# Altium integrated library ON Semi Logic Gate.IntLib: 342 symbols (part 5 of 7)
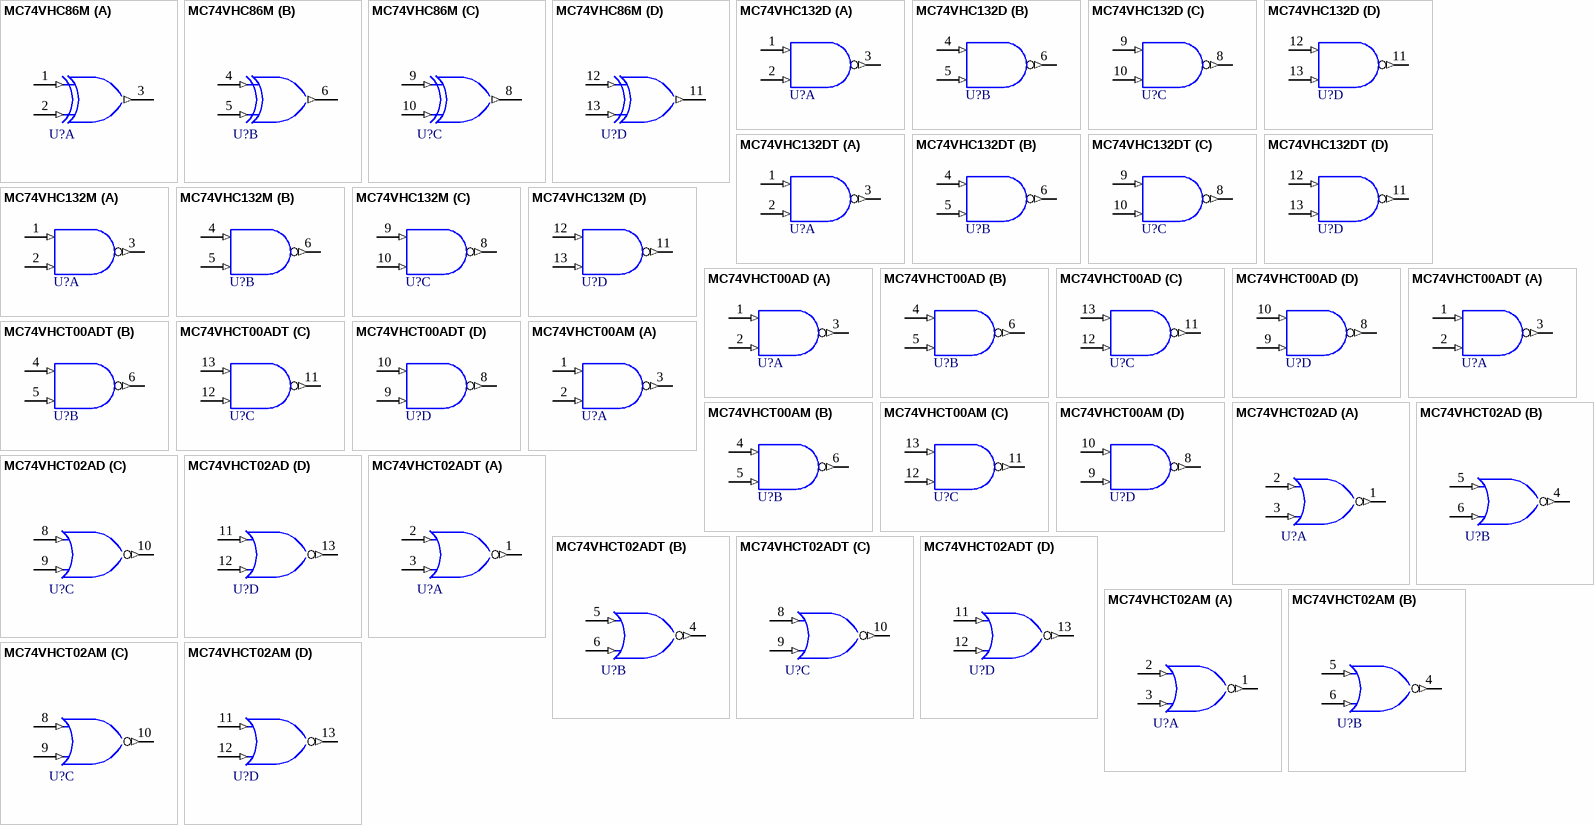
[diagram p30: symbols MC74VHC86M to MC74VHCT02AM]

## MC74VHCT00AM
designator U?
Quad 2-Input NAND Gate; Published: 15-Apr-2002; LatestRevisionDate: 13-Apr-2006; LatestRevisionNote: IPC-7351 Footprint Added.; DatasheetVersion: 1997; PackageVersion: 1996; PackageReference: 965-01; Publisher: Altium Limited; PackageDescription: 14-Pin Small Outline Package 1.27 mm Pitch; ComponentLink1Description: Manufacturer Link; ComponentLink1URL: http://www.onsemi.com/; ComponentLink2Description: Datasheet; ComponentLink2URL: http://www.onsemi.com/pub/Collateral/MC74VHCT00A-D.PDF
footprint 965-01_N (SOP, 14-Leads, Body 10.2x5.3mm, Pitch 1.27mm, IPC Medium Density)
footprint 965-01_L (SOP, 14-Leads, Body 10.2x5.3mm, Pitch 1.27mm, IPC High Density)
footprint 965-01_M (SOP, 14-Leads, Body 10.2x5.3mm, Pitch 1.27mm, IPC Low Density)
pins on every part: 7 GND (power) hidden to GND, 14 VCC (power) hidden to VCC
part A pins: 1 A (in), 2 B (in), 3 ~{O} (out)
part B pins: 4 A (in), 5 B (in), 6 ~{O} (out)
part C pins: 11 ~{O} (out), 12 B (in), 13 A (in)
part D pins: 8 ~{O} (out), 9 B (in), 10 A (in)

## MC74VHCT02AD
designator U?
Quad 2-Input NOR Gate; Published: 15-Apr-2002; LatestRevisionDate: 13-Apr-2006; LatestRevisionNote: IPC-7351 Footprint Added.; DatasheetVersion: 1999; PackageReference: 751A-03; Publisher: Altium Limited; PackageDescription: 14-Pin Small Outline Integrated Circuit 1.27 mm Pitch; Code_JEDEC: MS-012-AB; Code_IPC: SOIC127P600-14; ComponentLink1Description: Manufacturer Link; ComponentLink1URL: http://www.onsemi.com/; ComponentLink2Description: Datasheet; ComponentLink2URL: http://www.onsemi.com/pub/Collateral/MC74VHCT02A-D.PDF
footprint 751A-03_N (SOIC, 14-Leads, Body 8.7x3.9mm, Pitch 1.27mm, IPC Medium Density)
footprint 751A-03_L (SOIC, 14-Leads, Body 8.7x3.9mm, Pitch 1.27mm, IPC High Density)
footprint 751A-03_M (SOIC, 14-Leads, Body 8.7x3.9mm, Pitch 1.27mm, IPC Low Density)
pins on every part: 7 GND (power) hidden to GND, 14 VDD (power) hidden to VDD
part A pins: 1 ~{Y} (out), 2 A (in), 3 B (in)
part B pins: 4 ~{Y} (out), 5 A (in), 6 B (in)
part C pins: 8 A (in), 9 B (in), 10 ~{Y} (out)
part D pins: 11 A (in), 12 B (in), 13 ~{Y} (out)

## MC74VHCT02ADT
designator U?
Quad 2-Input NOR Gate; Published: 15-Apr-2002; LatestRevisionDate: 12-Dec-2006; LatestRevisionNote: IPC-7351 Footprint Added.; DatasheetVersion: 1999; PackageVersion: 1998; PackageReference: 948G-01; Publisher: Altium Limited; PackageDescription: 14-Pin Thin Small Outline Package 0.65 mm Pitch; ComponentLink1Description: Manufacturer Link; ComponentLink1URL: http://www.onsemi.com/; ComponentLink2Description: Datasheet; ComponentLink2URL: http://www.onsemi.com/pub/Collateral/MC74VHCT02A-D.PDF
footprint 948G-01_N (TSOP, 14-Leads, Body 5x4.4mm, Pitch 0.65mm, IPC Medium Density)
footprint 948G-01_L (TSOP, 14-Leads, Body 5x4.4mm, Pitch 0.65mm, IPC High Density)
footprint 948G-01_M (TSOP, 14-Leads, Body 5x4.4mm, Pitch 0.65mm, IPC Low Density)
pins on every part: 7 GND (power) hidden to GND, 14 VDD (power) hidden to VDD
part A pins: 1 ~{Y} (out), 2 A (in), 3 B (in)
part B pins: 4 ~{Y} (out), 5 A (in), 6 B (in)
part C pins: 8 A (in), 9 B (in), 10 ~{Y} (out)
part D pins: 11 A (in), 12 B (in), 13 ~{Y} (out)

## MC74VHCT02AM
designator U?
Quad 2-Input NOR Gate; Published: 15-Apr-2002; LatestRevisionDate: 13-Apr-2006; LatestRevisionNote: IPC-7351 Footprint Added.; DatasheetVersion: 1999; PackageVersion: 1996; PackageReference: 965-01; Publisher: Altium Limited; PackageDescription: 14-Pin Small Outline Package 1.27 mm Pitch; ComponentLink1Description: Manufacturer Link; ComponentLink1URL: http://www.onsemi.com/; ComponentLink2Description: Datasheet; ComponentLink2URL: http://www.onsemi.com/pub/Collateral/MC74VHCT02A-D.PDF
footprint 965-01_N (SOP, 14-Leads, Body 10.2x5.3mm, Pitch 1.27mm, IPC Medium Density)
footprint 965-01_L (SOP, 14-Leads, Body 10.2x5.3mm, Pitch 1.27mm, IPC High Density)
footprint 965-01_M (SOP, 14-Leads, Body 10.2x5.3mm, Pitch 1.27mm, IPC Low Density)
pins on every part: 7 GND (power) hidden to GND, 14 VDD (power) hidden to VDD
part A pins: 1 ~{Y} (out), 2 A (in), 3 B (in)
part B pins: 4 ~{Y} (out), 5 A (in), 6 B (in)
part C pins: 8 A (in), 9 B (in), 10 ~{Y} (out)
part D pins: 11 A (in), 12 B (in), 13 ~{Y} (out)

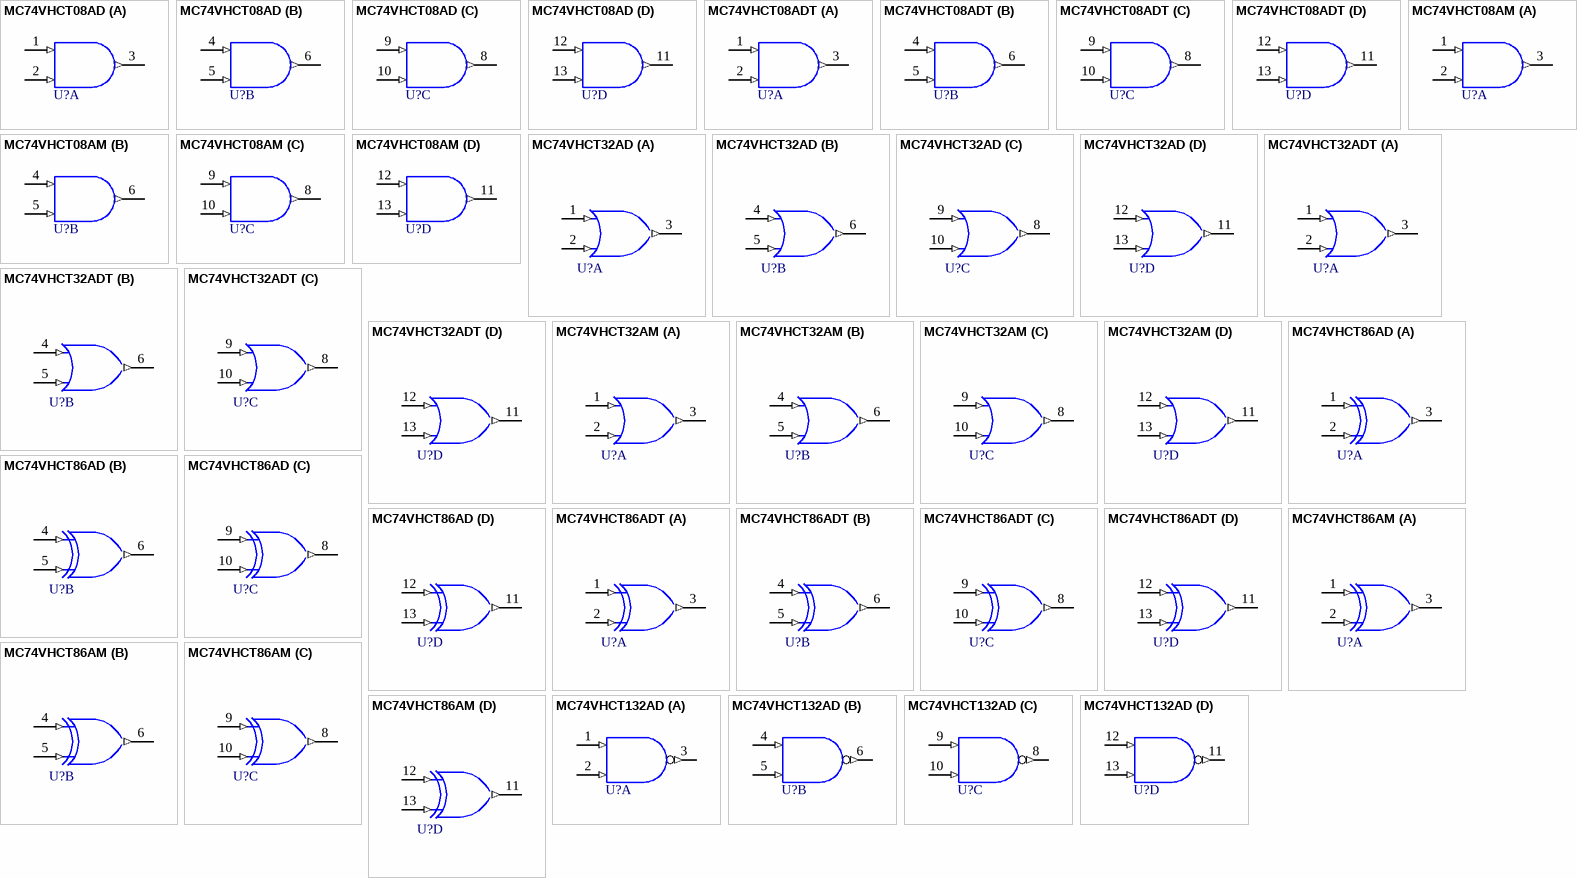
[diagram p16: symbols MC74VHCT08AD to MC74VHCT132AD]

## MC74VHCT08AD
designator U?
Quad 2-Input AND Gate; ComponentAvailability: Not for New Design; Published: 15-Apr-2002; LatestRevisionDate: 13-Apr-2006; LatestRevisionNote: IPC-7351 Footprint Added.; DatasheetVersion: 1999; PackageReference: 751A-03; Publisher: Altium Limited; PackageDescription: 14-Pin Small Outline Integrated Circuit 1.27 mm Pitch; Code_JEDEC: MS-012-AB; Code_IPC: SOIC127P600-14; ComponentLink1Description: Manufacturer Link; ComponentLink1URL: http://www.onsemi.com/; ComponentLink2Description: Datasheet; ComponentLink2URL: http://www.onsemi.com/pub/Collateral/MC74VHCT08A-D.PDF
footprint 751A-03_N (SOIC, 14-Leads, Body 8.7x3.9mm, Pitch 1.27mm, IPC Medium Density)
footprint 751A-03_L (SOIC, 14-Leads, Body 8.7x3.9mm, Pitch 1.27mm, IPC High Density)
footprint 751A-03_M (SOIC, 14-Leads, Body 8.7x3.9mm, Pitch 1.27mm, IPC Low Density)
pins on every part: 7 GND (power) hidden to GND, 14 VDD (power) hidden to VDD
part A pins: 1 A (in), 2 B (in), 3 Y (out)
part B pins: 4 A (in), 5 B (in), 6 Y (out)
part C pins: 8 Y (out), 9 A (in), 10 B (in)
part D pins: 11 Y (out), 12 A (in), 13 B (in)

## MC74VHCT08ADT
designator U?
Quad 2-Input AND Gate; ComponentAvailability: Not for New Design; Published: 15-Apr-2002; LatestRevisionDate: 12-Dec-2006; LatestRevisionNote: IPC-7351 Footprint Added.; DatasheetVersion: 1999; PackageVersion: 1998; PackageReference: 948G-01; Publisher: Altium Limited; PackageDescription: 14-Pin Thin Small Outline Package 0.65 mm Pitch; ComponentLink1Description: Manufacturer Link; ComponentLink1URL: http://www.onsemi.com/; ComponentLink2Description: Datasheet; ComponentLink2URL: http://www.onsemi.com/pub/Collateral/MC74VHCT08A-D.PDF
footprint 948G-01_N (TSOP, 14-Leads, Body 5x4.4mm, Pitch 0.65mm, IPC Medium Density)
footprint 948G-01_L (TSOP, 14-Leads, Body 5x4.4mm, Pitch 0.65mm, IPC High Density)
footprint 948G-01_M (TSOP, 14-Leads, Body 5x4.4mm, Pitch 0.65mm, IPC Low Density)
pins on every part: 7 GND (power) hidden to GND, 14 VDD (power) hidden to VDD
part A pins: 1 A (in), 2 B (in), 3 Y (out)
part B pins: 4 A (in), 5 B (in), 6 Y (out)
part C pins: 8 Y (out), 9 A (in), 10 B (in)
part D pins: 11 Y (out), 12 A (in), 13 B (in)

## MC74VHCT08AM
designator U?
Quad 2-Input AND Gate; Published: 15-Apr-2002; LatestRevisionDate: 13-Apr-2006; LatestRevisionNote: IPC-7351 Footprint Added.; DatasheetVersion: 1999; PackageVersion: 1996; PackageReference: 965-01; Publisher: Altium Limited; PackageDescription: 14-Pin Small Outline Package 1.27 mm Pitch; ComponentLink1Description: Manufacturer Link; ComponentLink1URL: http://www.onsemi.com/; ComponentLink2Description: Datasheet; ComponentLink2URL: http://www.onsemi.com/pub/Collateral/MC74VHCT08A-D.PDF
footprint 965-01_N (SOP, 14-Leads, Body 10.2x5.3mm, Pitch 1.27mm, IPC Medium Density)
footprint 965-01_L (SOP, 14-Leads, Body 10.2x5.3mm, Pitch 1.27mm, IPC High Density)
footprint 965-01_M (SOP, 14-Leads, Body 10.2x5.3mm, Pitch 1.27mm, IPC Low Density)
pins on every part: 7 GND (power) hidden to GND, 14 VDD (power) hidden to VDD
part A pins: 1 A (in), 2 B (in), 3 Y (out)
part B pins: 4 A (in), 5 B (in), 6 Y (out)
part C pins: 8 Y (out), 9 A (in), 10 B (in)
part D pins: 11 Y (out), 12 A (in), 13 B (in)

## MC74VHCT32AD
designator U?
Quad 2-Input OR Gate / CMOS Logic Level Shifter with LSTTL Compatible Inputs; ComponentAvailability: Not for New Design; Published: 15-Apr-2002; LatestRevisionDate: 13-Apr-2006; LatestRevisionNote: IPC-7351 Footprint Added.; DatasheetVersion: Oct-1999; PackageReference: 751A-03; Publisher: Altium Limited; PackageDescription: 14-Pin Small Outline Integrated Circuit 1.27 mm Pitch; Code_JEDEC: MS-012-AB; Code_IPC: SOIC127P600-14; ComponentLink1Description: Manufacturer Link; ComponentLink1URL: http://www.onsemi.com/; ComponentLink2Description: Datasheet; ComponentLink2URL: http://www.onsemi.com/pub/Collateral/MC74VHCT32A-D.PDF
footprint 751A-03_N (SOIC, 14-Leads, Body 8.7x3.9mm, Pitch 1.27mm, IPC Medium Density)
footprint 751A-03_L (SOIC, 14-Leads, Body 8.7x3.9mm, Pitch 1.27mm, IPC High Density)
footprint 751A-03_M (SOIC, 14-Leads, Body 8.7x3.9mm, Pitch 1.27mm, IPC Low Density)
pins on every part: 7 GND (power) hidden to GND, 14 VDD (power) hidden to VDD
part A pins: 1 A (in), 2 B (in), 3 Y (out)
part B pins: 4 A (in), 5 B (in), 6 Y (out)
part C pins: 8 Y (out), 9 A (in), 10 B (in)
part D pins: 11 Y (out), 12 A (in), 13 B (in)

## MC74VHCT32ADT
designator U?
Quad 2-Input OR Gate / CMOS Logic Level Shifter with LSTTL Compatible Inputs; ComponentAvailability: Not for New Design; Published: 15-Apr-2002; LatestRevisionDate: 12-Dec-2006; LatestRevisionNote: IPC-7351 Footprint Added.; DatasheetVersion: Oct-1999; PackageVersion: 1998; PackageReference: 948G-01; Publisher: Altium Limited; PackageDescription: 14-Pin Thin Small Outline Package 0.65 mm Pitch; ComponentLink1Description: Manufacturer Link; ComponentLink1URL: http://www.onsemi.com/; ComponentLink2Description: Datasheet; ComponentLink2URL: http://www.onsemi.com/pub/Collateral/MC74VHCT32A-D.PDF
footprint 948G-01_N (TSOP, 14-Leads, Body 5x4.4mm, Pitch 0.65mm, IPC Medium Density)
footprint 948G-01_L (TSOP, 14-Leads, Body 5x4.4mm, Pitch 0.65mm, IPC High Density)
footprint 948G-01_M (TSOP, 14-Leads, Body 5x4.4mm, Pitch 0.65mm, IPC Low Density)
pins on every part: 7 GND (power) hidden to GND, 14 VDD (power) hidden to VDD
part A pins: 1 A (in), 2 B (in), 3 Y (out)
part B pins: 4 A (in), 5 B (in), 6 Y (out)
part C pins: 8 Y (out), 9 A (in), 10 B (in)
part D pins: 11 Y (out), 12 A (in), 13 B (in)

## MC74VHCT32AM
designator U?
Quad 2-Input OR Gate / CMOS Logic Level Shifter with LSTTL Compatible Inputs; Published: 15-Apr-2002; LatestRevisionDate: 13-Apr-2006; LatestRevisionNote: IPC-7351 Footprint Added.; DatasheetVersion: Oct-1999; PackageVersion: 1996; PackageReference: 965-01; Publisher: Altium Limited; PackageDescription: 14-Pin Small Outline Package 1.27 mm Pitch; ComponentLink1Description: Manufacturer Link; ComponentLink1URL: http://www.onsemi.com/; ComponentLink2Description: Datasheet; ComponentLink2URL: http://www.onsemi.com/pub/Collateral/MC74VHCT32A-D.PDF
footprint 965-01_N (SOP, 14-Leads, Body 10.2x5.3mm, Pitch 1.27mm, IPC Medium Density)
footprint 965-01_L (SOP, 14-Leads, Body 10.2x5.3mm, Pitch 1.27mm, IPC High Density)
footprint 965-01_M (SOP, 14-Leads, Body 10.2x5.3mm, Pitch 1.27mm, IPC Low Density)
pins on every part: 7 GND (power) hidden to GND, 14 VDD (power) hidden to VDD
part A pins: 1 A (in), 2 B (in), 3 Y (out)
part B pins: 4 A (in), 5 B (in), 6 Y (out)
part C pins: 8 Y (out), 9 A (in), 10 B (in)
part D pins: 11 Y (out), 12 A (in), 13 B (in)

## MC74VHCT86AD
designator U?
Quad 2-Input XOR Gate / CMOS Logic Level Shifter with LSTTL-Compatible Inputs; ComponentAvailability: Not for New Design; Published: 15-Apr-2002; LatestRevisionDate: 13-Apr-2006; LatestRevisionNote: IPC-7351 Footprint Added.; DatasheetVersion: Oct-1999; PackageReference: 751A-03; Publisher: Altium Limited; PackageDescription: 14-Pin Small Outline Integrated Circuit 1.27 mm Pitch; Code_JEDEC: MS-012-AB; Code_IPC: SOIC127P600-14; ComponentLink1Description: Manufacturer Link; ComponentLink1URL: http://www.onsemi.com/; ComponentLink2Description: Datasheet; ComponentLink2URL: http://www.onsemi.com/pub/Collateral/MC74VHCT86A-D.PDF
footprint 751A-03_N (SOIC, 14-Leads, Body 8.7x3.9mm, Pitch 1.27mm, IPC Medium Density)
footprint 751A-03_L (SOIC, 14-Leads, Body 8.7x3.9mm, Pitch 1.27mm, IPC High Density)
footprint 751A-03_M (SOIC, 14-Leads, Body 8.7x3.9mm, Pitch 1.27mm, IPC Low Density)
pins on every part: 7 GND (power) hidden to GND, 14 VDD (power) hidden to VDD
part A pins: 1 A (in), 2 B (in), 3 Y (out)
part B pins: 4 A (in), 5 B (in), 6 Y (out)
part C pins: 8 Y (out), 9 A (in), 10 B (in)
part D pins: 11 Y (out), 12 A (in), 13 B (in)

## MC74VHCT86ADT
designator U?
Quad 2-Input XOR Gate / CMOS Logic Level Shifter with LSTTL-Compatible Inputs; ComponentAvailability: Not for New Design; Published: 15-Apr-2002; LatestRevisionDate: 12-Dec-2006; LatestRevisionNote: IPC-7351 Footprint Added.; DatasheetVersion: Oct-1999; PackageVersion: 1998; PackageReference: 948G-01; Publisher: Altium Limited; PackageDescription: 14-Pin Thin Small Outline Package 0.65 mm Pitch; ComponentLink1Description: Manufacturer Link; ComponentLink1URL: http://www.onsemi.com/; ComponentLink2Description: Datasheet; ComponentLink2URL: http://www.onsemi.com/pub/Collateral/MC74VHCT86A-D.PDF
footprint 948G-01_N (TSOP, 14-Leads, Body 5x4.4mm, Pitch 0.65mm, IPC Medium Density)
footprint 948G-01_L (TSOP, 14-Leads, Body 5x4.4mm, Pitch 0.65mm, IPC High Density)
footprint 948G-01_M (TSOP, 14-Leads, Body 5x4.4mm, Pitch 0.65mm, IPC Low Density)
pins on every part: 7 GND (power) hidden to GND, 14 VDD (power) hidden to VDD
part A pins: 1 A (in), 2 B (in), 3 Y (out)
part B pins: 4 A (in), 5 B (in), 6 Y (out)
part C pins: 8 Y (out), 9 A (in), 10 B (in)
part D pins: 11 Y (out), 12 A (in), 13 B (in)

## MC74VHCT86AM
designator U?
Quad 2-Input XOR Gate / CMOS Logic Level Shifter with LSTTL-Compatible Inputs; Published: 15-Apr-2002; LatestRevisionDate: 13-Apr-2006; LatestRevisionNote: IPC-7351 Footprint Added.; DatasheetVersion: Oct-1999; PackageVersion: 1996; PackageReference: 965-01; Publisher: Altium Limited; PackageDescription: 14-Pin Small Outline Package 1.27 mm Pitch; ComponentLink1Description: Manufacturer Link; ComponentLink1URL: http://www.onsemi.com/; ComponentLink2Description: Datasheet; ComponentLink2URL: http://www.onsemi.com/pub/Collateral/MC74VHCT86A-D.PDF
footprint 965-01_N (SOP, 14-Leads, Body 10.2x5.3mm, Pitch 1.27mm, IPC Medium Density)
footprint 965-01_L (SOP, 14-Leads, Body 10.2x5.3mm, Pitch 1.27mm, IPC High Density)
footprint 965-01_M (SOP, 14-Leads, Body 10.2x5.3mm, Pitch 1.27mm, IPC Low Density)
pins on every part: 7 GND (power) hidden to GND, 14 VDD (power) hidden to VDD
part A pins: 1 A (in), 2 B (in), 3 Y (out)
part B pins: 4 A (in), 5 B (in), 6 Y (out)
part C pins: 8 Y (out), 9 A (in), 10 B (in)
part D pins: 11 Y (out), 12 A (in), 13 B (in)

## MC74VHCT132AD
designator U?
Quad 2-Input NAND Schmitt Trigger; ComponentAvailability: Not for New Design; Published: 15-Apr-2002; LatestRevisionDate: 13-Apr-2006; LatestRevisionNote: IPC-7351 Footprint Added.; DatasheetVersion: 1999; PackageReference: 751A-03; Publisher: Altium Limited; PackageDescription: 14-Pin Small Outline Integrated Circuit 1.27 mm Pitch; Code_JEDEC: MS-012-AB; Code_IPC: SOIC127P600-14; ComponentLink1Description: Manufacturer Link; ComponentLink1URL: http://www.onsemi.com/; ComponentLink2Description: Datasheet; ComponentLink2URL: http://www.onsemi.com/pub/Collateral/MC74VHCT132A-D.PDF
footprint 751A-03_N (SOIC, 14-Leads, Body 8.7x3.9mm, Pitch 1.27mm, IPC Medium Density)
footprint 751A-03_L (SOIC, 14-Leads, Body 8.7x3.9mm, Pitch 1.27mm, IPC High Density)
footprint 751A-03_M (SOIC, 14-Leads, Body 8.7x3.9mm, Pitch 1.27mm, IPC Low Density)
pins on every part: 7 GND (power) hidden to GND, 14 VDD (power) hidden to VDD
part A pins: 1 A (in), 2 B (in), 3 Y (out)
part B pins: 4 A (in), 5 B (in), 6 Y (out)
part C pins: 8 Y (out), 9 A (in), 10 B (in)
part D pins: 11 Y (out), 12 A (in), 13 B (in)

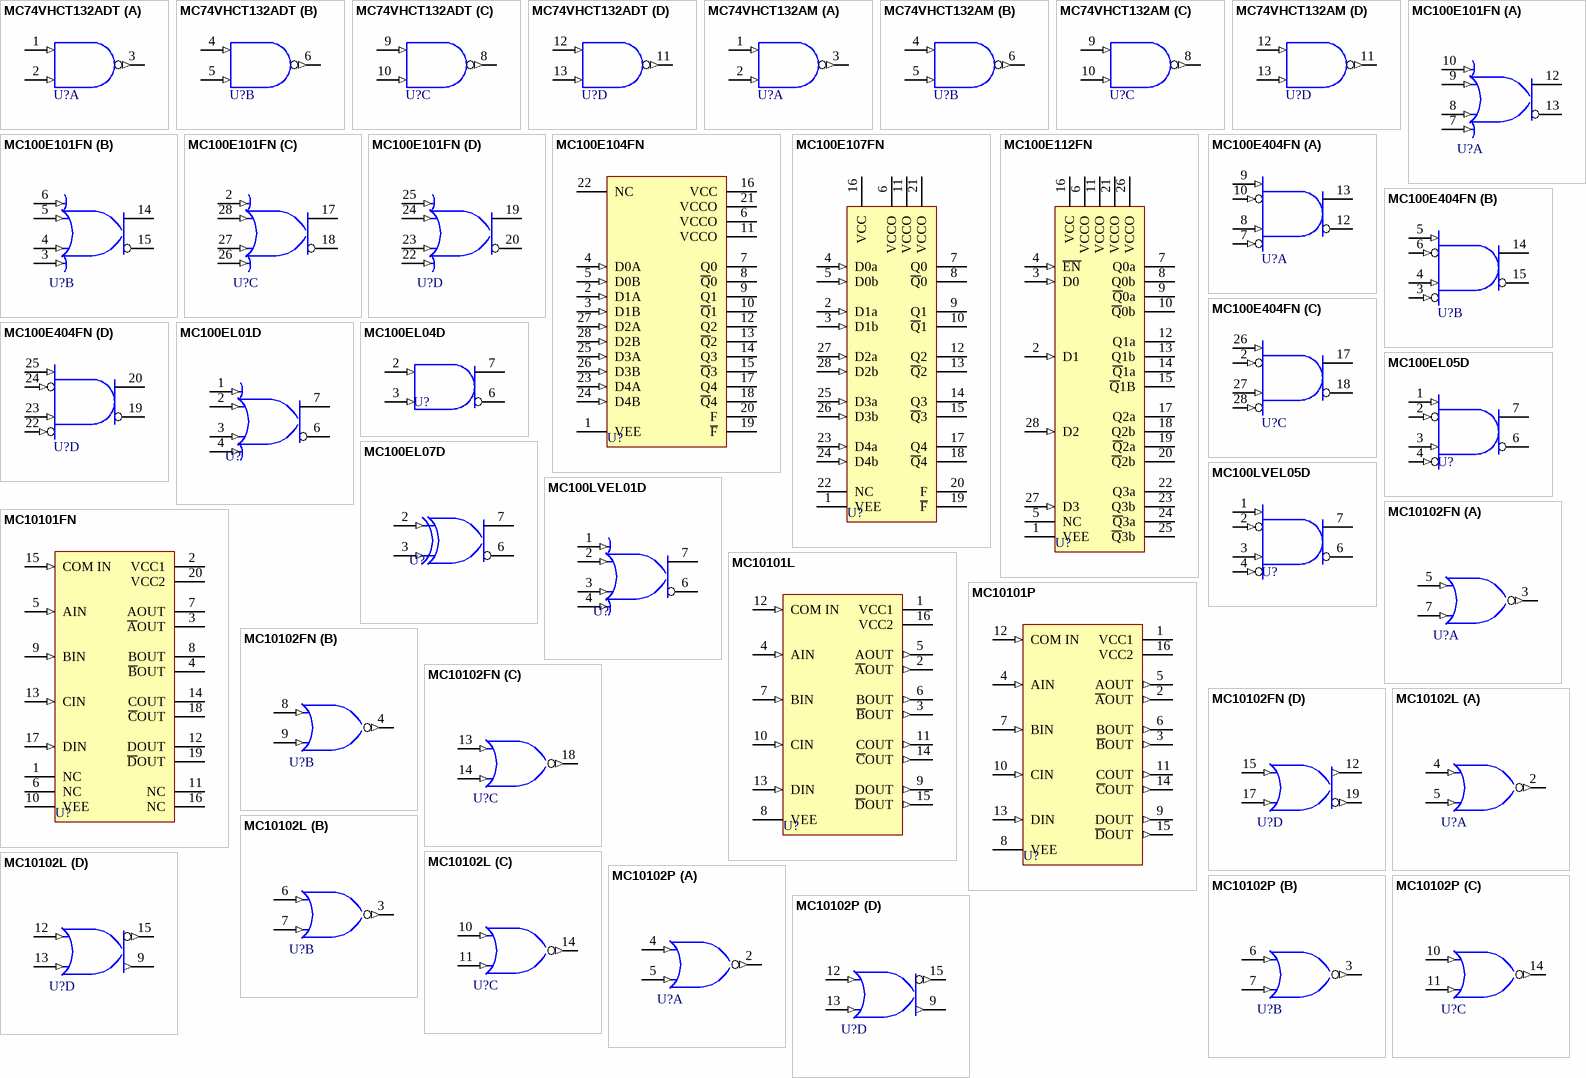
[diagram p17: symbols MC74VHCT132ADT to MC10102P]

## MC74VHCT132ADT
designator U?
Quad 2-Input NAND Schmitt Trigger; ComponentAvailability: Not for New Design; Published: 15-Apr-2002; LatestRevisionDate: 12-Dec-2006; LatestRevisionNote: IPC-7351 Footprint Added.; DatasheetVersion: 1999; PackageVersion: 1998; PackageReference: 948G-01; Publisher: Altium Limited; PackageDescription: 14-Pin Thin Small Outline Package 0.65 mm Pitch; ComponentLink1Description: Manufacturer Link; ComponentLink1URL: http://www.onsemi.com/; ComponentLink2Description: Datasheet; ComponentLink2URL: http://www.onsemi.com/pub/Collateral/MC74VHCT132A-D.PDF
footprint 948G-01_N (TSOP, 14-Leads, Body 5x4.4mm, Pitch 0.65mm, IPC Medium Density)
footprint 948G-01_L (TSOP, 14-Leads, Body 5x4.4mm, Pitch 0.65mm, IPC High Density)
footprint 948G-01_M (TSOP, 14-Leads, Body 5x4.4mm, Pitch 0.65mm, IPC Low Density)
pins on every part: 7 GND (power) hidden to GND, 14 VDD (power) hidden to VDD
part A pins: 1 A (in), 2 B (in), 3 Y (out)
part B pins: 4 A (in), 5 B (in), 6 Y (out)
part C pins: 8 Y (out), 9 A (in), 10 B (in)
part D pins: 11 Y (out), 12 A (in), 13 B (in)

## MC74VHCT132AM
designator U?
Quad 2-Input NAND Schmitt Trigger; Published: 15-Apr-2002; LatestRevisionDate: 13-Apr-2006; LatestRevisionNote: IPC-7351 Footprint Added.; DatasheetVersion: 1999; PackageVersion: 1996; PackageReference: 965-01; Publisher: Altium Limited; PackageDescription: 14-Pin Small Outline Package 1.27 mm Pitch; ComponentLink1Description: Manufacturer Link; ComponentLink1URL: http://www.onsemi.com/; ComponentLink2Description: Datasheet; ComponentLink2URL: http://www.onsemi.com/pub/Collateral/MC74VHCT132A-D.PDF
footprint 965-01_N (SOP, 14-Leads, Body 10.2x5.3mm, Pitch 1.27mm, IPC Medium Density)
footprint 965-01_L (SOP, 14-Leads, Body 10.2x5.3mm, Pitch 1.27mm, IPC High Density)
footprint 965-01_M (SOP, 14-Leads, Body 10.2x5.3mm, Pitch 1.27mm, IPC Low Density)
pins on every part: 7 GND (power) hidden to GND, 14 VDD (power) hidden to VDD
part A pins: 1 A (in), 2 B (in), 3 Y (out)
part B pins: 4 A (in), 5 B (in), 6 Y (out)
part C pins: 8 Y (out), 9 A (in), 10 B (in)
part D pins: 11 Y (out), 12 A (in), 13 B (in)

## MC100E101FN
designator U?
Quad 4-Input OR/NOR Gate; Published: 15-Apr-2002; LatestRevisionDate: 13-Apr-2006; LatestRevisionNote: IPC-7351 Footprint Added.; DatasheetVersion: 1996; PackageVersion: Feb-2000; PackageReference: 776-02; Publisher: Altium Limited; PackageDescription: 28-Pin Leaded Chip Carrier 1.27 mm Pitch; ComponentLink1Description: Manufacturer Link; ComponentLink1URL: http://www.onsemi.com/; ComponentLink2Description: Datasheet; ComponentLink2URL: http://www.onsemi.com/pub/Collateral/MC10E101-D.PDF
footprint 776-02_N (Leaded Chip Carrier, 28-Leads, Body 11.5x11.5mm, Pitch 1.27mm, IPC Medium Density)
footprint 776-02_L (Leaded Chip Carrier, 28-Leads, Body 11.5x11.5mm, Pitch 1.27mm, IPC High Density)
footprint 776-02_M (Leaded Chip Carrier, 28-Leads, Body 11.5x11.5mm, Pitch 1.27mm, IPC Low Density)
pins on every part: 1 VEE (power) hidden to VEE, 11 VCCO (power) hidden to VCCO, 16 VCC (power) hidden to VCC, 21 VCCO (power) hidden to VCCO
part A pins: 7 D0d (in), 8 D0c (in), 9 D0b (in), 10 D0a (in), 12 Q0 (oe), 13 ~{Q}0 (oe)
part B pins: 3 D1d (in), 4 D1c (in), 5 D1b (in), 6 D1a (in), 14 Q1 (oe), 15 ~{Q}1 (oe)
part C pins: 2 D2a (in), 17 Q2 (oe), 18 ~{Q}2 (oe), 26 D2d (in), 27 D2c (in), 28 D2b (in)
part D pins: 19 Q3 (oe), 20 ~{Q}3 (oe), 22 D3d (in), 23 D3c (in), 24 D3b (in), 25 D3a (in)

## MC100E104FN
designator U?
Quint 2-Input AND/NAND Gate; Published: 15-Apr-2002; LatestRevisionDate: 13-Apr-2006; LatestRevisionNote: IPC-7351 Footprint Added.; DatasheetVersion: 1996; PackageVersion: Feb-2000; PackageReference: 776-02; Publisher: Altium Limited; PackageDescription: 28-Pin Leaded Chip Carrier 1.27 mm Pitch; ComponentLink1Description: Manufacturer Link; ComponentLink1URL: http://www.onsemi.com/; ComponentLink2Description: Datasheet; ComponentLink2URL: http://www.onsemi.com/pub/Collateral/MC10E104-D.PDF
footprint 776-02_N (Leaded Chip Carrier, 28-Leads, Body 11.5x11.5mm, Pitch 1.27mm, IPC Medium Density)
footprint 776-02_L (Leaded Chip Carrier, 28-Leads, Body 11.5x11.5mm, Pitch 1.27mm, IPC High Density)
footprint 776-02_M (Leaded Chip Carrier, 28-Leads, Body 11.5x11.5mm, Pitch 1.27mm, IPC Low Density)
pins: 1 VEE (power), 2 D1A (in), 3 D1B (in), 4 D0A (in), 5 D0B (in), 6 VCCO (power), 7 Q0 (oe), 8 ~{Q}0 (oe), 9 Q1 (oe), 10 ~{Q}1 (oe), 11 VCCO (power), 12 Q2 (oe), 13 ~{Q}2 (oe), 14 Q3 (oe), 15 ~{Q}3 (oe), 16 VCC (power), 17 Q4 (oe), 18 ~{Q}4 (oe), 19 ~{F} (oe), 20 F (oe), 21 VCCO (power), 22 NC, 23 D4A (in), 24 D4B (in), 25 D3A (in), 26 D3B (in), 27 D2A (in), 28 D2B (in)

## MC100E107FN
designator U?
Quint 2-Input XOR/XNOR Gate; Published: 15-Apr-2002; LatestRevisionDate: 13-Apr-2006; LatestRevisionNote: IPC-7351 Footprint Added.; DatasheetVersion: 1996; PackageVersion: Feb-2000; PackageReference: 776-02; Publisher: Altium Limited; PackageDescription: 28-Pin Leaded Chip Carrier 1.27 mm Pitch; ComponentLink1Description: Manufacturer Link; ComponentLink1URL: http://www.onsemi.com/; ComponentLink2Description: Datasheet; ComponentLink2URL: http://www.onsemi.com/pub/Collateral/MC10E107-D.PDF
footprint 776-02_N (Leaded Chip Carrier, 28-Leads, Body 11.5x11.5mm, Pitch 1.27mm, IPC Medium Density)
footprint 776-02_L (Leaded Chip Carrier, 28-Leads, Body 11.5x11.5mm, Pitch 1.27mm, IPC High Density)
footprint 776-02_M (Leaded Chip Carrier, 28-Leads, Body 11.5x11.5mm, Pitch 1.27mm, IPC Low Density)
pins: 1 VEE (power), 2 D1a (in), 3 D1b (in), 4 D0a (in), 5 D0b (in), 6 VCCO (power), 7 Q0 (oe), 8 ~{Q}0 (oe), 9 Q1 (oe), 10 ~{Q}1 (oe), 11 VCCO (power), 12 Q2 (oe), 13 ~{Q}2 (oe), 14 Q3 (oe), 15 ~{Q}3 (oe), 16 VCC (power), 17 Q4 (oe), 18 ~{Q}4 (oe), 19 ~{F} (oe), 20 F (oe), 21 VCCO (power), 22 NC, 23 D4a (in), 24 D4b (in), 25 D3a (in), 26 D3b (in), 27 D2a (in), 28 D2b (in)

## MC100E112FN
designator U?
Quad Driver; Published: 15-Apr-2002; LatestRevisionDate: 13-Apr-2006; LatestRevisionNote: IPC-7351 Footprint Added.; DatasheetVersion: 1996; PackageVersion: Feb-2000; PackageReference: 776-02; Publisher: Altium Limited; PackageDescription: 28-Pin Leaded Chip Carrier 1.27 mm Pitch; ComponentLink1Description: Manufacturer Link; ComponentLink1URL: http://www.onsemi.com/; ComponentLink2Description: Datasheet; ComponentLink2URL: http://www.onsemi.com/pub/Collateral/MC10E112-D.PDF
footprint 776-02_N (Leaded Chip Carrier, 28-Leads, Body 11.5x11.5mm, Pitch 1.27mm, IPC Medium Density)
footprint 776-02_L (Leaded Chip Carrier, 28-Leads, Body 11.5x11.5mm, Pitch 1.27mm, IPC High Density)
footprint 776-02_M (Leaded Chip Carrier, 28-Leads, Body 11.5x11.5mm, Pitch 1.27mm, IPC Low Density)
pins: 1 VEE (power), 2 D1 (in), 3 D0 (in), 4 ~{EN} (in), 5 NC, 6 VCCO (power), 7 Q0a (oe), 8 Q0b (oe), 9 ~{Q}0a (oe), 10 ~{Q}0b (oe), 11 VCCO (power), 12 Q1a (oe), 13 Q1b (oe), 14 ~{Q}1a (oe), 15 ~{Q}1B (oe), 16 VCC (power), 17 Q2a (oe), 18 Q2b (oe), 19 ~{Q}2a (oe), 20 ~{Q}2b (oe), 21 VCCO (power), 22 Q3a (oe), 23 Q3b (oe), 24 ~{Q}3a (oe), 25 ~{Q}3b (oe), 26 VCCO (power), 27 D3 (in), 28 D2 (in)

## MC100E404FN
designator U?
Quad Differential AND/NAND Gate; Published: 15-Apr-2002; LatestRevisionDate: 13-Apr-2006; LatestRevisionNote: IPC-7351 Footprint Added.; DatasheetVersion: 1996; PackageVersion: Feb-2000; PackageReference: 776-02; Publisher: Altium Limited; PackageDescription: 28-Pin Leaded Chip Carrier 1.27 mm Pitch; ComponentLink1Description: Manufacturer Link; ComponentLink1URL: http://www.onsemi.com/; ComponentLink2Description: Datasheet; ComponentLink2URL: http://www.onsemi.com/pub/Collateral/MC10E404-D.PDF
footprint 776-02_N (Leaded Chip Carrier, 28-Leads, Body 11.5x11.5mm, Pitch 1.27mm, IPC Medium Density)
footprint 776-02_L (Leaded Chip Carrier, 28-Leads, Body 11.5x11.5mm, Pitch 1.27mm, IPC High Density)
footprint 776-02_M (Leaded Chip Carrier, 28-Leads, Body 11.5x11.5mm, Pitch 1.27mm, IPC Low Density)
pins on every part: 1 VEE (power) hidden to VEE, 11 VCCO (power) hidden to VCCO, 16 VCC (power) hidden to VCC, 21 VCCO (power) hidden to VCCO
part A pins: 7 ~{D}0b (in), 8 D0b (in), 9 D0a (in), 10 ~{D}0a (in), 12 ~{Q}0 (oe), 13 Q0 (oe)
part B pins: 3 ~{D}1b (in), 4 D1b (in), 5 ~{D}1a (in), 6 D1a (in), 14 Q1 (oe), 15 ~{Q}1 (oe)
part C pins: 2 D2a (in), 17 Q2 (oe), 18 ~{Q}2 (oe), 26 ~{D}2b (in), 27 D2b (in), 28 ~{D}2a (in)
part D pins: 19 ~{Q}3 (oe), 20 Q3 (oe), 22 ~{D}3b (in), 23 D3b (in), 24 ~{D}3a (in), 25 D3a (in)

## MC100EL01D
designator U?
4-Input OR/NOR Gate; Published: 15-Apr-2002; LatestRevisionDate: 13-Apr-2006; LatestRevisionNote: IPC-7351 Footprint Added.; DatasheetVersion: 1996; PackageVersion: 1998; PackageReference: 751-05; Publisher: Altium Limited; PackageDescription: 8-Pin Small Outline Integrated Circuit 1.27 mm Pitch; Code_JEDEC: MS-012-AA; Code_IPC: SOIC127P600-8; ComponentLink1Description: Manufacturer Link; ComponentLink1URL: http://www.onsemi.com/; ComponentLink2Description: Datasheet; ComponentLink2URL: http://www.onsemi.com/pub/Collateral/MC10EL01-D.PDF
footprint 751-05_N (SOIC, 8-Leads, Body 4.9x3.9mm, Pitch 1.27mm, IPC Medium Density)
footprint 751-05_L (SOIC, 8-Leads, Body 4.9x3.9mm, Pitch 1.27mm, IPC High Density)
footprint 751-05_M (SOIC, 8-Leads, Body 4.9x3.9mm, Pitch 1.27mm, IPC Low Density)
pins: 1 D0 (in), 2 D1 (in), 3 D2 (in), 4 D3 (in), 5 VEE (power) hidden to VEE, 6 ~{Q} (oe), 7 Q (oe), 8 VCC (power) hidden to VCC

## MC100EL04D
designator U?
2-Input AND/NAND Gate; Note: NC Pins are pins 1, 4; Published: 15-Apr-2002; LatestRevisionDate: 13-Apr-2006; LatestRevisionNote: IPC-7351 Footprint Added.; DatasheetVersion: 1996; PackageVersion: 1998; PackageReference: 751-05; Publisher: Altium Limited; PackageDescription: 8-Pin Small Outline Integrated Circuit 1.27 mm Pitch; Code_JEDEC: MS-012-AA; Code_IPC: SOIC127P600-8; ComponentLink1Description: Manufacturer Link; ComponentLink1URL: http://www.onsemi.com/; ComponentLink2Description: Datasheet; ComponentLink2URL: http://www.onsemi.com/pub/Collateral/MC10EL04-D.PDF
footprint 751-05_N (SOIC, 8-Leads, Body 4.9x3.9mm, Pitch 1.27mm, IPC Medium Density)
footprint 751-05_L (SOIC, 8-Leads, Body 4.9x3.9mm, Pitch 1.27mm, IPC High Density)
footprint 751-05_M (SOIC, 8-Leads, Body 4.9x3.9mm, Pitch 1.27mm, IPC Low Density)
pins: 2 D0 (in), 3 D1 (in), 5 VEE (power) hidden to VEE, 6 ~{Q} (oe), 7 Q (oe), 8 VCC (power) hidden to VCC

## MC100EL05D
designator U?
2-Input Differential AND/NAND Gate; Published: 15-Apr-2002; LatestRevisionDate: 13-Apr-2006; LatestRevisionNote: IPC-7351 Footprint Added.; DatasheetVersion: 1996; PackageVersion: 1998; PackageReference: 751-05; Publisher: Altium Limited; PackageDescription: 8-Pin Small Outline Integrated Circuit 1.27 mm Pitch; Code_JEDEC: MS-012-AA; Code_IPC: SOIC127P600-8; ComponentLink1Description: Manufacturer Link; ComponentLink1URL: http://www.onsemi.com/; ComponentLink2Description: Datasheet; ComponentLink2URL: http://www.onsemi.com/pub/Collateral/MC10EL05-D.PDF
footprint 751-05_N (SOIC, 8-Leads, Body 4.9x3.9mm, Pitch 1.27mm, IPC Medium Density)
footprint 751-05_L (SOIC, 8-Leads, Body 4.9x3.9mm, Pitch 1.27mm, IPC High Density)
footprint 751-05_M (SOIC, 8-Leads, Body 4.9x3.9mm, Pitch 1.27mm, IPC Low Density)
pins: 1 D0 (in), 2 ~{D}0 (in), 3 D1 (in), 4 ~{D}1 (in), 5 VEE (power) hidden to VEE, 6 ~{Q} (oe), 7 Q (oe), 8 VCC (power) hidden to VCC

## MC100EL07D
designator U?
2-Input XOR/XNOR Gate; Note: NC Pins are pins 1, 4 and not drawn.; Published: 15-Apr-2002; LatestRevisionDate: 13-Apr-2006; LatestRevisionNote: IPC-7351 Footprint Added.; DatasheetVersion: 1996; PackageVersion: 1998; PackageReference: 751-05; Publisher: Altium Limited; PackageDescription: 8-Pin Small Outline Integrated Circuit 1.27 mm Pitch; Code_JEDEC: MS-012-AA; Code_IPC: SOIC127P600-8; ComponentLink1Description: Manufacturer Link; ComponentLink1URL: http://www.onsemi.com/; ComponentLink2Description: Datasheet; ComponentLink2URL: http://www.onsemi.com/pub/Collateral/MC10EL07-D.PDF
footprint 751-05_N (SOIC, 8-Leads, Body 4.9x3.9mm, Pitch 1.27mm, IPC Medium Density)
footprint 751-05_L (SOIC, 8-Leads, Body 4.9x3.9mm, Pitch 1.27mm, IPC High Density)
footprint 751-05_M (SOIC, 8-Leads, Body 4.9x3.9mm, Pitch 1.27mm, IPC Low Density)
pins: 2 D0 (in), 3 D1 (in), 5 VEE (power) hidden to VEE, 6 ~{Q} (oe), 7 Q (oe), 8 VCC (power) hidden to VCC

## MC100LVEL01D
designator U?
4-Input OR/NOR Gate; Published: 15-Apr-2002; LatestRevisionDate: 13-Apr-2006; LatestRevisionNote: IPC-7351 Footprint Added.; DatasheetVersion: 1996; PackageVersion: 1998; PackageReference: 751-05; Publisher: Altium Limited; PackageDescription: 8-Pin Small Outline Integrated Circuit 1.27 mm Pitch; Code_JEDEC: MS-012-AA; Code_IPC: SOIC127P600-8; ComponentLink1Description: Manufacturer Link; ComponentLink1URL: http://www.onsemi.com/; ComponentLink2Description: Datasheet; ComponentLink2URL: http://www.onsemi.com/pub/Collateral/MC100LVEL01-D.PDF
footprint 751-05_N (SOIC, 8-Leads, Body 4.9x3.9mm, Pitch 1.27mm, IPC Medium Density)
footprint 751-05_L (SOIC, 8-Leads, Body 4.9x3.9mm, Pitch 1.27mm, IPC High Density)
footprint 751-05_M (SOIC, 8-Leads, Body 4.9x3.9mm, Pitch 1.27mm, IPC Low Density)
pins: 1 D0 (in), 2 D1 (in), 3 D2 (in), 4 D3 (in), 5 VEE (power) hidden to VEE, 6 ~{Q} (oe), 7 Q (oe), 8 VCC (power) hidden to VCC

## MC100LVEL05D
designator U?
2-Input Differential AND/NAND Gate; Published: 15-Apr-2002; LatestRevisionDate: 13-Apr-2006; LatestRevisionNote: IPC-7351 Footprint Added.; DatasheetVersion: 1997; PackageVersion: 1998; PackageReference: 751-05; Publisher: Altium Limited; PackageDescription: 8-Pin Small Outline Integrated Circuit 1.27 mm Pitch; Code_JEDEC: MS-012-AA; Code_IPC: SOIC127P600-8; ComponentLink1Description: Manufacturer Link; ComponentLink1URL: http://www.onsemi.com/; ComponentLink2Description: Datasheet; ComponentLink2URL: http://www.onsemi.com/pub/Collateral/MC100LVEL05-D.PDF
footprint 751-05_N (SOIC, 8-Leads, Body 4.9x3.9mm, Pitch 1.27mm, IPC Medium Density)
footprint 751-05_L (SOIC, 8-Leads, Body 4.9x3.9mm, Pitch 1.27mm, IPC High Density)
footprint 751-05_M (SOIC, 8-Leads, Body 4.9x3.9mm, Pitch 1.27mm, IPC Low Density)
pins: 1 D0 (in), 2 ~{D}0 (in), 3 D1 (in), 4 ~{D}1 (in), 5 VEE (power) hidden to VEE, 6 ~{Q} (oe), 7 Q (oe), 8 VCC (power) hidden to VCC

## MC10101FN
designator U?
Quad OR/NOR Gate; Note: NC pins are pins 1, 6, 11, 16; ComponentAvailability: Not for New Design; Published: 15-Apr-2002; LatestRevisionDate: 13-Apr-2006; LatestRevisionNote: IPC-7351 Footprint Added.; DatasheetVersion: 1996; PackageVersion: 1996; PackageReference: 775-02; Publisher: Altium Limited; PackageDescription: 20-Pin Leaded Chip Carrier 1.27 mm Pitch; ComponentLink1Description: Manufacturer Link; ComponentLink1URL: http://www.onsemi.com/; ComponentLink2Description: Datasheet; ComponentLink2URL: http://www.onsemi.com/pub/Collateral/MC10101-D.PDF
footprint 775-02_N (Leaded Chip Carrier, 20-Leads, Body 9x9mm, Pitch 1.27mm, IPC Medium Density)
footprint 775-02_L (Leaded Chip Carrier, 20-Leads, Body 9x9mm, Pitch 1.27mm, IPC High Density)
footprint 775-02_M (Leaded Chip Carrier, 20-Leads, Body 9x9mm, Pitch 1.27mm, IPC Low Density)
pins: 1 NC, 2 VCC1 (power), 3 ~{A}OUT (oe), 4 ~{B}OUT (oe), 5 AIN (in), 6 NC, 7 AOUT (oe), 8 BOUT (oe), 9 BIN (in), 10 VEE (power), 11 NC, 12 DOUT (oe), 13 CIN (in), 14 COUT (oe), 15 COM IN (in), 16 NC, 17 DIN (in), 18 ~{C}OUT (oe), 19 ~{D}OUT (oe), 20 VCC2 (power)

## MC10101L
designator U?
Quad OR/NOR Gate; ComponentAvailability: Not for New Design; Published: 15-Apr-2002; DatasheetVersion: 1996; PackageVersion: 1996; PackageReference: 620-10; Publisher: Altium Limited; PackageDescription: DIP; 16 Leads; Row Spacing 7.62 mm; Pitch 2.54 mm; ComponentLink1Description: Manufacturer Link; ComponentLink1URL: http://www.onsemi.com/; ComponentLink2Description: Datasheet; ComponentLink2URL: http://www.onsemi.com/pub/Collateral/MC10101-D.PDF
footprint 620-10 (DIP; 16 Leads; Row Spacing 7.62 mm; Pitch 2.54 mm)
pins: 1 VCC1 (power), 2 ~{A}OUT (out), 3 ~{B}OUT (out), 4 AIN (in), 5 AOUT (out), 6 BOUT (out), 7 BIN (in), 8 VEE (power), 9 DOUT (out), 10 CIN (in), 11 COUT (out), 12 COM IN (in), 13 DIN (in), 14 ~{C}OUT (out), 15 ~{D}OUT (out), 16 VCC2 (power)

## MC10101P
designator U?
Quad OR/NOR Gate; ComponentAvailability: Not for New Design; Published: 15-Apr-2002; DatasheetVersion: 1996; PackageVersion: Apr-2000; PackageReference: 648-08; Publisher: Altium Limited; PackageDescription: DIP; 16 Leads; Row Spacing 7.62 mm; Pitch 2.54 mm; Code_JEDEC: MS-001-BB; ComponentLink1Description: Manufacturer Link; ComponentLink1URL: http://www.onsemi.com/; ComponentLink2Description: Datasheet; ComponentLink2URL: http://www.onsemi.com/pub/Collateral/MC10101-D.PDF
footprint 648-08 (DIP; 16 Leads; Row Spacing 7.62 mm; Pitch 2.54 mm)
pins: 1 VCC1 (power), 2 ~{A}OUT (out), 3 ~{B}OUT (out), 4 AIN (in), 5 AOUT (out), 6 BOUT (out), 7 BIN (in), 8 VEE (power), 9 DOUT (out), 10 CIN (in), 11 COUT (out), 12 COM IN (in), 13 DIN (in), 14 ~{C}OUT (out), 15 ~{D}OUT (out), 16 VCC2 (power)

## MC10102FN
designator U?
Quad 2-Input NOR Gate; Note: NC Pins are pins 1, 6, 11, 16.; ComponentAvailability: Not for New Design; Published: 15-Apr-2002; LatestRevisionDate: 13-Apr-2006; LatestRevisionNote: IPC-7351 Footprint Added.; DatasheetVersion: 1996; PackageVersion: 1996; PackageReference: 775-02; Publisher: Altium Limited; PackageDescription: 20-Pin Leaded Chip Carrier 1.27 mm Pitch; ComponentLink1Description: Manufacturer Link; ComponentLink1URL: http://www.onsemi.com/; ComponentLink2Description: Datasheet; ComponentLink2URL: http://www.onsemi.com/pub/Collateral/MC10102-D.PDF
footprint 775-02_N (Leaded Chip Carrier, 20-Leads, Body 9x9mm, Pitch 1.27mm, IPC Medium Density)
footprint 775-02_L (Leaded Chip Carrier, 20-Leads, Body 9x9mm, Pitch 1.27mm, IPC High Density)
footprint 775-02_M (Leaded Chip Carrier, 20-Leads, Body 9x9mm, Pitch 1.27mm, IPC Low Density)
pins on every part: 2 VCC1 (power) hidden to VCC1, 10 VEE (power) hidden to VEE, 20 VCC2 (power) hidden to VCC2
part A pins: 3 ~{Y} (out), 5 A (in), 7 B (in)
part B pins: 4 ~{Y} (out), 8 A (in), 9 B (in)
part C pins: 13 A (in), 14 B (in), 18 ~{Y} (out)
part D pins: 12 Y (out), 15 A (in), 17 B (in), 19 ~{Y} (out)

## MC10102L
designator U?
Quad 2-Input NOR Gate; ComponentAvailability: Not for New Design; Published: 15-Apr-2002; LatestRevisionDate: 28-Feb-2003; LatestRevisionNote: Duplicate Pins Removed; DatasheetVersion: 1996; PackageVersion: 1996; PackageReference: 620-10; Publisher: Altium Limited; PackageDescription: DIP; 16 Leads; Row Spacing 7.62 mm; Pitch 2.54 mm; ComponentLink1Description: Manufacturer Link; ComponentLink1URL: http://www.onsemi.com/; ComponentLink2Description: Datasheet; ComponentLink2URL: http://www.onsemi.com/pub/Collateral/MC10102-D.PDF
footprint 620-10 (DIP; 16 Leads; Row Spacing 7.62 mm; Pitch 2.54 mm)
pins on every part: 1 VCC1 (power) hidden to VCC1, 8 VEE (power) hidden to VEE, 16 VCC2 (power) hidden to VCC2
part A pins: 2 ~{AOUT} (out), 4 AIN (in), 5 AIN (in)
part B pins: 3 ~{BOUT} (out), 6 BIN (in), 7 BIN (in)
part C pins: 10 CIN (in), 11 CIN (in), 14 ~{COUT} (out)
part D pins: 9 DOUT (out), 12 DIN (in), 13 DIN (in), 15 ~{DOUT} (out)

## MC10102P
designator U?
Quad 2-Input NOR Gate; ComponentAvailability: Not for New Design; Published: 15-Apr-2002; LatestRevisionDate: 28-Feb-2003; LatestRevisionNote: Duplicate Pins Removed; DatasheetVersion: 1996; PackageVersion: Apr-2000; PackageReference: 648-08; Publisher: Altium Limited; PackageDescription: DIP; 16 Leads; Row Spacing 7.62 mm; Pitch 2.54 mm; Code_JEDEC: MS-001-BB; ComponentLink1Description: Manufacturer Link; ComponentLink1URL: http://www.onsemi.com/; ComponentLink2Description: Datasheet; ComponentLink2URL: http://www.onsemi.com/pub/Collateral/MC10102-D.PDF
footprint 648-08 (DIP; 16 Leads; Row Spacing 7.62 mm; Pitch 2.54 mm)
pins on every part: 1 VCC1 (power) hidden to VCC1, 8 VEE (power) hidden to VEE, 16 VCC2 (power) hidden to VCC2
part A pins: 2 ~{AOUT} (out), 4 AIN (in), 5 AIN (in)
part B pins: 3 ~{BOUT} (out), 6 BIN (in), 7 BIN (in)
part C pins: 10 CIN (in), 11 CIN (in), 14 ~{COUT} (out)
part D pins: 9 DOUT (out), 12 DIN (in), 13 DIN (in), 15 ~{DOUT} (out)

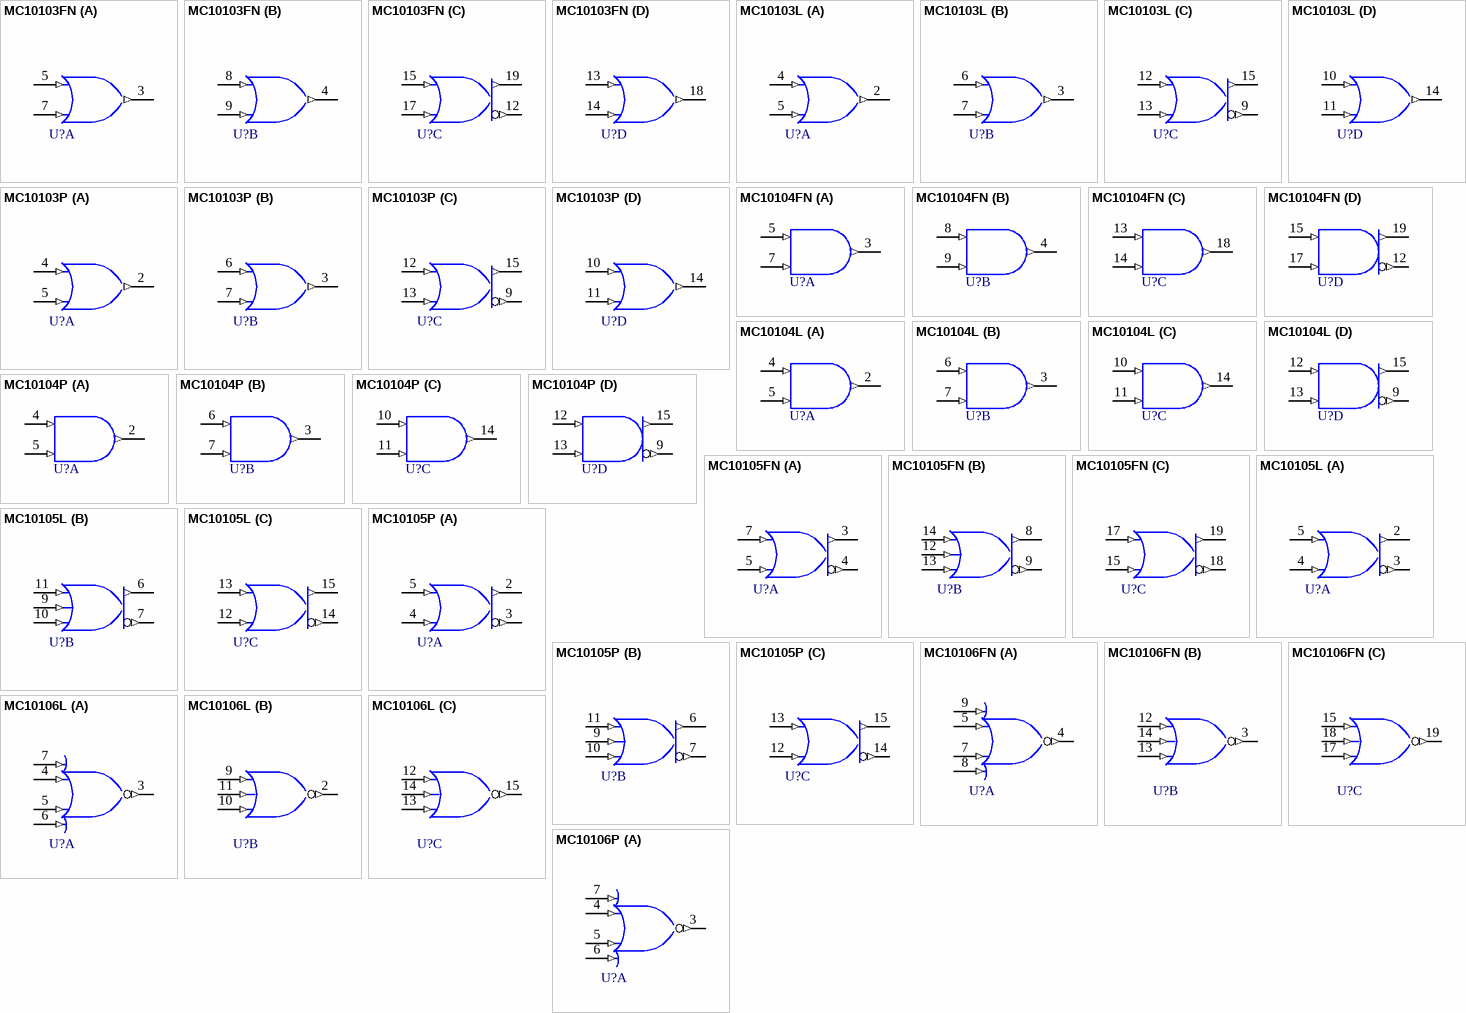
[diagram p18: symbols MC10103FN to MC10106P]

## MC10103FN
designator U?
Quad 2-Input OR Gate; Note: NC Pins are pins 1, 6, 11, 16.; ComponentAvailability: Not for New Design; Published: 15-Apr-2002; LatestRevisionDate: 13-Apr-2006; LatestRevisionNote: IPC-7351 Footprint Added.; DatasheetVersion: 1996; PackageVersion: 1996; PackageReference: 775-02; Publisher: Altium Limited; PackageDescription: 20-Pin Leaded Chip Carrier 1.27 mm Pitch; ComponentLink1Description: Manufacturer Link; ComponentLink1URL: http://www.onsemi.com/; ComponentLink2Description: Datasheet; ComponentLink2URL: http://www.onsemi.com/pub/Collateral/MC10103-D.PDF
footprint 775-02_N (Leaded Chip Carrier, 20-Leads, Body 9x9mm, Pitch 1.27mm, IPC Medium Density)
footprint 775-02_L (Leaded Chip Carrier, 20-Leads, Body 9x9mm, Pitch 1.27mm, IPC High Density)
footprint 775-02_M (Leaded Chip Carrier, 20-Leads, Body 9x9mm, Pitch 1.27mm, IPC Low Density)
pins on every part: 2 VCC1 (power) hidden to VCC1, 10 VEE (power) hidden to VEE, 20 VCC2 (power) hidden to VCC2
part A pins: 3 Y (out), 5 A (in), 7 B (in)
part B pins: 4 Y (out), 8 A (in), 9 B (in)
part C pins: 12 ~{Y} (out), 15 A (in), 17 B (in), 19 Y (out)
part D pins: 13 A (in), 14 B (in), 18 Y (out)

## MC10103L
designator U?
Quad 2-Input OR Gate; ComponentAvailability: Not for New Design; Published: 15-Apr-2002; DatasheetVersion: 1996; PackageVersion: 1996; PackageReference: 620-10; Publisher: Altium Limited; PackageDescription: DIP; 16 Leads; Row Spacing 7.62 mm; Pitch 2.54 mm; ComponentLink1Description: Manufacturer Link; ComponentLink1URL: http://www.onsemi.com/; ComponentLink2Description: Datasheet; ComponentLink2URL: http://www.onsemi.com/pub/Collateral/MC10103-D.PDF
footprint 620-10 (DIP; 16 Leads; Row Spacing 7.62 mm; Pitch 2.54 mm)
pins on every part: 1 VCC1 (power) hidden to VCC1, 8 VEE (power) hidden to VEE, 16 VCC2 (power) hidden to VCC2
part A pins: 2 Y (out), 4 A (in), 5 B (in)
part B pins: 3 Y (out), 6 A (in), 7 B (in)
part C pins: 9 ~{Y} (out), 12 A (in), 13 B (in), 15 Y (out)
part D pins: 10 A (in), 11 B (in), 14 Y (out)

## MC10103P
designator U?
Quad 2-Input OR Gate; ComponentAvailability: Not for New Design; Published: 15-Apr-2002; DatasheetVersion: 1996; PackageVersion: Apr-2000; PackageReference: 648-08; Publisher: Altium Limited; PackageDescription: DIP; 16 Leads; Row Spacing 7.62 mm; Pitch 2.54 mm; Code_JEDEC: MS-001-BB; ComponentLink1Description: Manufacturer Link; ComponentLink1URL: http://www.onsemi.com/; ComponentLink2Description: Datasheet; ComponentLink2URL: http://www.onsemi.com/pub/Collateral/MC10103-D.PDF
footprint 648-08 (DIP; 16 Leads; Row Spacing 7.62 mm; Pitch 2.54 mm)
pins on every part: 1 VCC1 (power) hidden to VCC1, 8 VEE (power) hidden to VEE, 16 VCC2 (power) hidden to VCC2
part A pins: 2 Y (out), 4 A (in), 5 B (in)
part B pins: 3 Y (out), 6 A (in), 7 B (in)
part C pins: 9 ~{Y} (out), 12 A (in), 13 B (in), 15 Y (out)
part D pins: 10 A (in), 11 B (in), 14 Y (out)

## MC10104FN
designator U?
Quad 2-Input AND Gate; Note: NC Pins are pins 1, 6, 11, 16.; ComponentAvailability: Not for New Design; Published: 15-Apr-2002; LatestRevisionDate: 13-Apr-2006; LatestRevisionNote: IPC-7351 Footprint Added.; DatasheetVersion: 1996; PackageVersion: 1996; PackageReference: 775-02; Publisher: Altium Limited; PackageDescription: 20-Pin Leaded Chip Carrier 1.27 mm Pitch; ComponentLink1Description: Manufacturer Link; ComponentLink1URL: http://www.onsemi.com/; ComponentLink2Description: Datasheet; ComponentLink2URL: http://www.onsemi.com/pub/Collateral/MC10104-D.PDF
footprint 775-02_N (Leaded Chip Carrier, 20-Leads, Body 9x9mm, Pitch 1.27mm, IPC Medium Density)
footprint 775-02_L (Leaded Chip Carrier, 20-Leads, Body 9x9mm, Pitch 1.27mm, IPC High Density)
footprint 775-02_M (Leaded Chip Carrier, 20-Leads, Body 9x9mm, Pitch 1.27mm, IPC Low Density)
pins on every part: 2 VCC1 (power) hidden to VCC1, 10 VEE (power) hidden to VEE, 20 VCC2 (power) hidden to VCC2
part A pins: 3 Y (out), 5 A (in), 7 B (in)
part B pins: 4 Y (out), 8 A (in), 9 B (in)
part C pins: 13 A (in), 14 B (in), 18 Y (out)
part D pins: 12 ~{Y} (out), 15 A (in), 17 B (in), 19 Y (out)

## MC10104L
designator U?
Quad 2-Input AND Gate; ComponentAvailability: Not for New Design; Published: 15-Apr-2002; DatasheetVersion: 1996; PackageVersion: 1996; PackageReference: 620-10; Publisher: Altium Limited; PackageDescription: DIP; 16 Leads; Row Spacing 7.62 mm; Pitch 2.54 mm; ComponentLink1Description: Manufacturer Link; ComponentLink1URL: http://www.onsemi.com/; ComponentLink2Description: Datasheet; ComponentLink2URL: http://www.onsemi.com/pub/Collateral/MC10104-D.PDF
footprint 620-10 (DIP; 16 Leads; Row Spacing 7.62 mm; Pitch 2.54 mm)
pins on every part: 1 VCC1 (power) hidden to VCC1, 8 VEE (power) hidden to VEE, 16 VCC2 (power) hidden to VCC2
part A pins: 2 Y (out), 4 A (in), 5 B (in)
part B pins: 3 Y (out), 6 A (in), 7 B (in)
part C pins: 10 A (in), 11 B (in), 14 Y (out)
part D pins: 9 ~{Y} (out), 12 A (in), 13 B (in), 15 Y (out)

## MC10104P
designator U?
Quad 2-Input AND Gate; ComponentAvailability: Not for New Design; Published: 15-Apr-2002; DatasheetVersion: 1996; PackageVersion: Apr-2000; PackageReference: 648-08; Publisher: Altium Limited; PackageDescription: DIP; 16 Leads; Row Spacing 7.62 mm; Pitch 2.54 mm; Code_JEDEC: MS-001-BB; ComponentLink1Description: Manufacturer Link; ComponentLink1URL: http://www.onsemi.com/; ComponentLink2Description: Datasheet; ComponentLink2URL: http://www.onsemi.com/pub/Collateral/MC10104-D.PDF
footprint 648-08 (DIP; 16 Leads; Row Spacing 7.62 mm; Pitch 2.54 mm)
pins on every part: 1 VCC1 (power) hidden to VCC1, 8 VEE (power) hidden to VEE, 16 VCC2 (power) hidden to VCC2
part A pins: 2 Y (out), 4 A (in), 5 B (in)
part B pins: 3 Y (out), 6 A (in), 7 B (in)
part C pins: 10 A (in), 11 B (in), 14 Y (out)
part D pins: 9 ~{Y} (out), 12 A (in), 13 B (in), 15 Y (out)

## MC10105FN
designator U?
Triple 2-3-2-Input OR/NOR Gate; Note: NC Pins are pins 1, 6, 11, 16.; ComponentAvailability: Not for New Design; Published: 15-Apr-2002; LatestRevisionDate: 13-Apr-2006; LatestRevisionNote: IPC-7351 Footprint Added.; DatasheetVersion: 1996; PackageVersion: 1996; PackageReference: 775-02; Publisher: Altium Limited; PackageDescription: 20-Pin Leaded Chip Carrier 1.27 mm Pitch; ComponentLink1Description: Manufacturer Link; ComponentLink1URL: http://www.onsemi.com/; ComponentLink2Description: Datasheet; ComponentLink2URL: http://www.onsemi.com/pub/Collateral/MC10105-D.PDF
footprint 775-02_N (Leaded Chip Carrier, 20-Leads, Body 9x9mm, Pitch 1.27mm, IPC Medium Density)
footprint 775-02_L (Leaded Chip Carrier, 20-Leads, Body 9x9mm, Pitch 1.27mm, IPC High Density)
footprint 775-02_M (Leaded Chip Carrier, 20-Leads, Body 9x9mm, Pitch 1.27mm, IPC Low Density)
pins on every part: 2 VCC1 (power) hidden to VCC1, 10 VEE (power) hidden to VEE, 20 VCC2 (power) hidden to VCC2
part A pins: 3 Y (out), 4 ~{Y} (out), 5 B (in), 7 A (in)
part B pins: 8 Y (out), 9 ~{Y} (out), 12 B (in), 13 C (in), 14 A (in)
part C pins: 15 B (in), 17 A (in), 18 ~{Y} (out), 19 Y (out)

## MC10105L
designator U?
Triple 2-3-2-Input OR/NOR Gate; ComponentAvailability: Not for New Design; Published: 15-Apr-2002; DatasheetVersion: 1996; PackageVersion: 1996; PackageReference: 620-10; Publisher: Altium Limited; PackageDescription: DIP; 16 Leads; Row Spacing 7.62 mm; Pitch 2.54 mm; ComponentLink1Description: Manufacturer Link; ComponentLink1URL: http://www.onsemi.com/; ComponentLink2Description: Datasheet; ComponentLink2URL: http://www.onsemi.com/pub/Collateral/MC10105-D.PDF
footprint 620-10 (DIP; 16 Leads; Row Spacing 7.62 mm; Pitch 2.54 mm)
pins on every part: 1 VCC1 (power) hidden to VCC1, 8 VEE (power) hidden to VEE, 16 VCC2 (power) hidden to VCC2
part A pins: 2 Y (out), 3 ~{Y} (out), 4 B (in), 5 A (in)
part B pins: 6 Y (out), 7 ~{Y} (out), 9 B (in), 10 C (in), 11 A (in)
part C pins: 12 B (in), 13 A (in), 14 ~{Y} (out), 15 Y (out)

## MC10105P
designator U?
Triple 2-3-2-Input OR/NOR Gate; ComponentAvailability: Not for New Design; Published: 15-Apr-2002; DatasheetVersion: 1996; PackageVersion: Apr-2000; PackageReference: 648-08; Publisher: Altium Limited; PackageDescription: DIP; 16 Leads; Row Spacing 7.62 mm; Pitch 2.54 mm; Code_JEDEC: MS-001-BB; ComponentLink1Description: Manufacturer Link; ComponentLink1URL: http://www.onsemi.com/; ComponentLink2Description: Datasheet; ComponentLink2URL: http://www.onsemi.com/pub/Collateral/MC10105-D.PDF
footprint 648-08 (DIP; 16 Leads; Row Spacing 7.62 mm; Pitch 2.54 mm)
pins on every part: 1 VCC1 (power) hidden to VCC1, 8 VEE (power) hidden to VEE, 16 VCC2 (power) hidden to VCC2
part A pins: 2 Y (out), 3 ~{Y} (out), 4 B (in), 5 A (in)
part B pins: 6 Y (out), 7 ~{Y} (out), 9 B (in), 10 C (in), 11 A (in)
part C pins: 12 B (in), 13 A (in), 14 ~{Y} (out), 15 Y (out)

## MC10106FN
designator U?
Triple 4-3-3-Input NOR Gate; Note: NC Pins are pins 1, 6, 11, 16.; ComponentAvailability: Not for New Design; Published: 15-Apr-2002; LatestRevisionDate: 13-Apr-2006; LatestRevisionNote: IPC-7351 Footprint Added.; DatasheetVersion: 1996; PackageVersion: 1996; PackageReference: 775-02; Publisher: Altium Limited; PackageDescription: 20-Pin Leaded Chip Carrier 1.27 mm Pitch; ComponentLink1Description: Manufacturer Link; ComponentLink1URL: http://www.onsemi.com/; ComponentLink2Description: Datasheet; ComponentLink2URL: http://www.onsemi.com/pub/Collateral/MC10106-D.PDF
footprint 775-02_N (Leaded Chip Carrier, 20-Leads, Body 9x9mm, Pitch 1.27mm, IPC Medium Density)
footprint 775-02_L (Leaded Chip Carrier, 20-Leads, Body 9x9mm, Pitch 1.27mm, IPC High Density)
footprint 775-02_M (Leaded Chip Carrier, 20-Leads, Body 9x9mm, Pitch 1.27mm, IPC Low Density)
pins on every part: 2 VCC1 (power) hidden to VCC1, 10 VEE (power) hidden to VEE, 20 VCC2 (power) hidden to VCC2
part A pins: 4 ~{Y} (out), 5 B (in), 7 C (in), 8 D (in), 9 A (in)
part B pins: 3 ~{Y} (out), 12 A (in), 13 C (in), 14 B (in)
part C pins: 15 A (in), 17 C (in), 18 B (in), 19 ~{Y} (out)

## MC10106L
designator U?
Triple 4-3-3-Input NOR Gate; ComponentAvailability: Not for New Design; Published: 15-Apr-2002; DatasheetVersion: 1996; PackageVersion: 1996; PackageReference: 620-10; Publisher: Altium Limited; PackageDescription: DIP; 16 Leads; Row Spacing 7.62 mm; Pitch 2.54 mm; ComponentLink1Description: Manufacturer Link; ComponentLink1URL: http://www.onsemi.com/; ComponentLink2Description: Datasheet; ComponentLink2URL: http://www.onsemi.com/pub/Collateral/MC10106-D.PDF
footprint 620-10 (DIP; 16 Leads; Row Spacing 7.62 mm; Pitch 2.54 mm)
pins on every part: 1 VCC1 (power) hidden to VCC1, 8 VEE (power) hidden to VEE, 16 VCC2 (power) hidden to VCC2
part A pins: 3 ~{Y} (out), 4 B (in), 5 C (in), 6 D (in), 7 A (in)
part B pins: 2 ~{Y} (out), 9 A (in), 10 D (in), 11 C (in)
part C pins: 12 A (in), 13 C (in), 14 B (in), 15 ~{Y} (out)

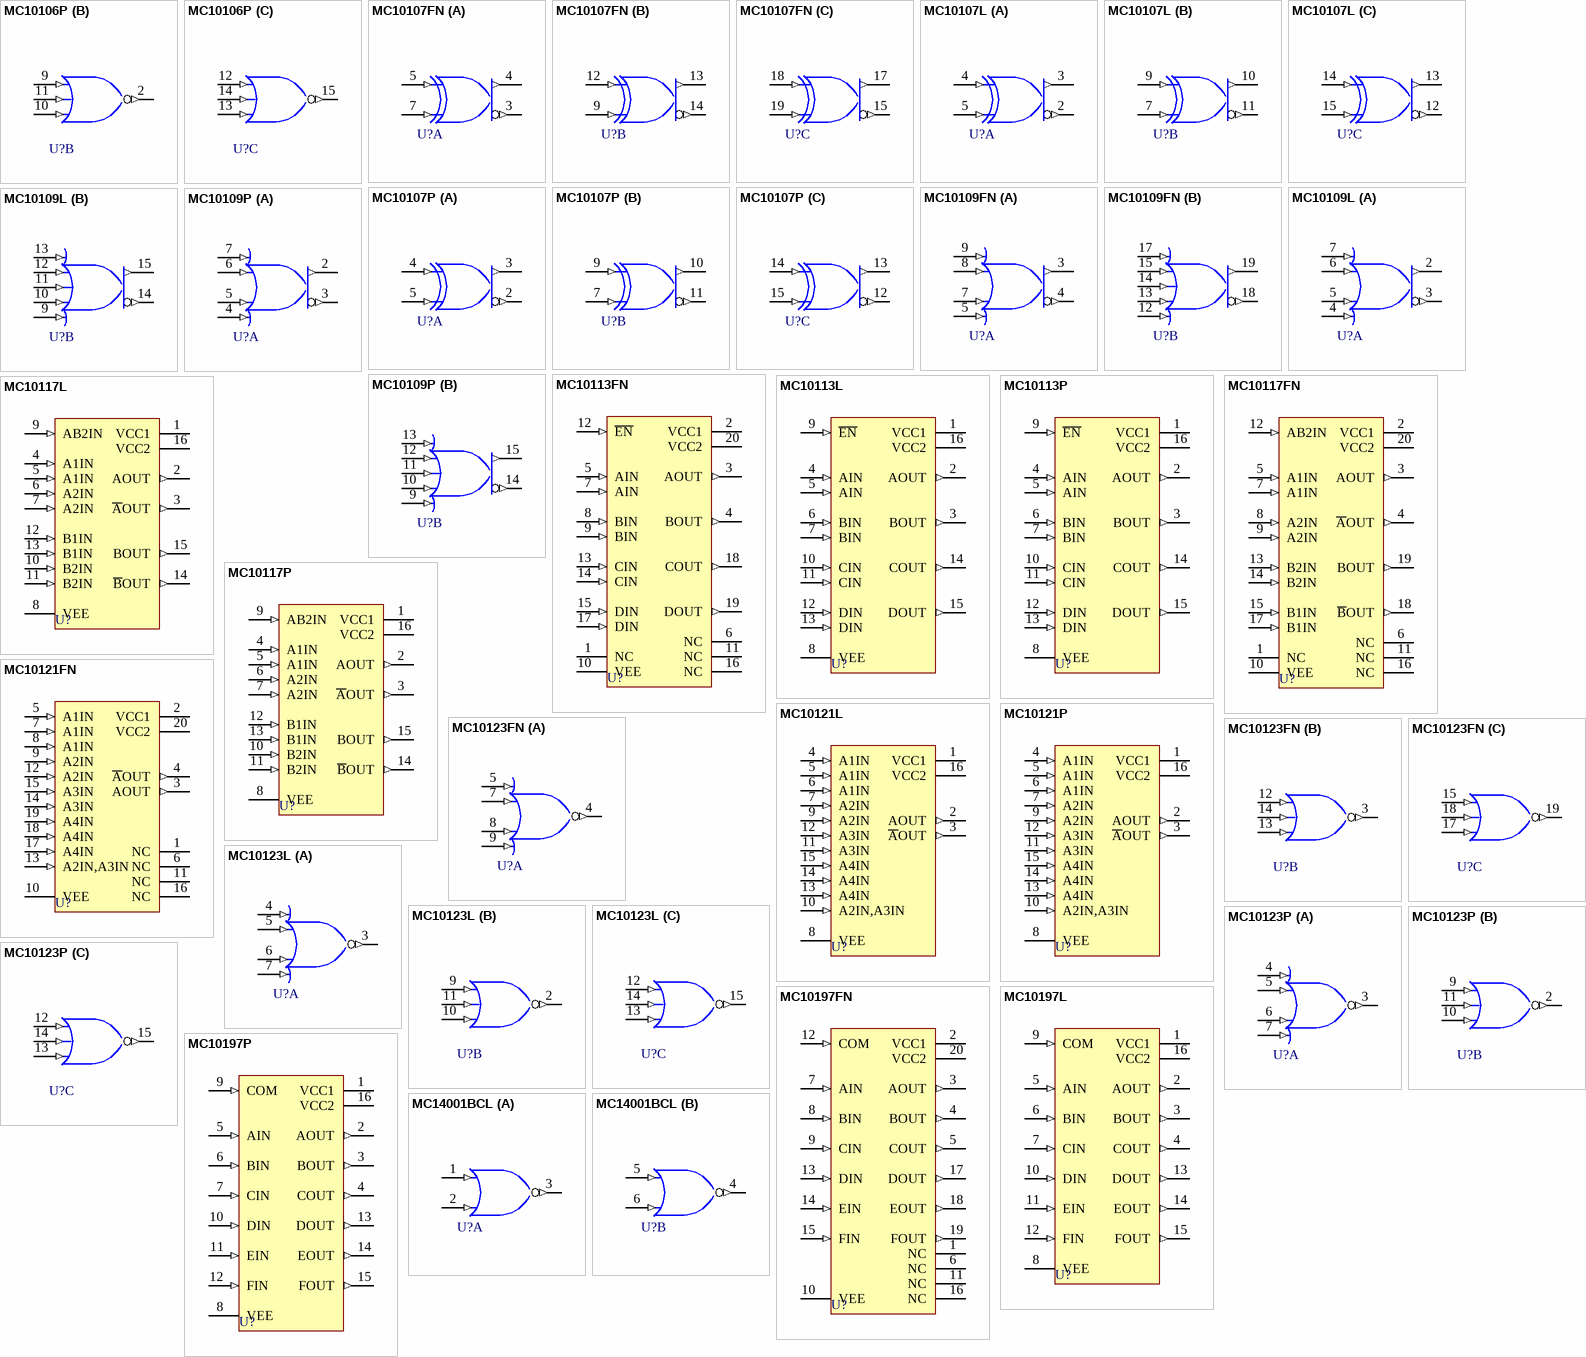
[diagram p19: symbols MC10106P to MC14001BCL]

## MC10106P
designator U?
Triple 4-3-3-Input NOR Gate; ComponentAvailability: Not for New Design; Published: 15-Apr-2002; DatasheetVersion: 1996; PackageVersion: Apr-2000; PackageReference: 648-08; Publisher: Altium Limited; PackageDescription: DIP; 16 Leads; Row Spacing 7.62 mm; Pitch 2.54 mm; Code_JEDEC: MS-001-BB; ComponentLink1Description: Manufacturer Link; ComponentLink1URL: http://www.onsemi.com/; ComponentLink2Description: Datasheet; ComponentLink2URL: http://www.onsemi.com/pub/Collateral/MC10106-D.PDF
footprint 648-08 (DIP; 16 Leads; Row Spacing 7.62 mm; Pitch 2.54 mm)
pins on every part: 1 VCC1 (power) hidden to VCC1, 8 VEE (power) hidden to VEE, 16 VCC2 (power) hidden to VCC2
part A pins: 3 ~{Y} (out), 4 B (in), 5 C (in), 6 D (in), 7 A (in)
part B pins: 2 ~{Y} (out), 9 A (in), 10 D (in), 11 C (in)
part C pins: 12 A (in), 13 C (in), 14 B (in), 15 ~{Y} (out)

## MC10107FN
designator U?
Triple 2-Input XOR/XNOR Gate; Note: NC Pins are pins 1, 6, 11, 16 and not drawn.; ComponentAvailability: Not for New Design; Published: 15-Apr-2002; LatestRevisionDate: 13-Apr-2006; LatestRevisionNote: IPC-7351 Footprint Added.; DatasheetVersion: 1996; PackageVersion: 1996; PackageReference: 775-02; Publisher: Altium Limited; PackageDescription: 20-Pin Leaded Chip Carrier 1.27 mm Pitch; ComponentLink1Description: Manufacturer Link; ComponentLink1URL: http://www.onsemi.com/; ComponentLink2Description: Datasheet; ComponentLink2URL: http://www.onsemi.com/pub/Collateral/MC10107-D.PDF
footprint 775-02_N (Leaded Chip Carrier, 20-Leads, Body 9x9mm, Pitch 1.27mm, IPC Medium Density)
footprint 775-02_L (Leaded Chip Carrier, 20-Leads, Body 9x9mm, Pitch 1.27mm, IPC High Density)
footprint 775-02_M (Leaded Chip Carrier, 20-Leads, Body 9x9mm, Pitch 1.27mm, IPC Low Density)
pins on every part: 2 VCC1 (power) hidden to VCC1, 10 VEE (power) hidden to VEE, 20 VCC2 (power) hidden to VCC2
part A pins: 3 ~{Y} (out), 4 Y (out), 5 A (in), 7 B (in)
part B pins: 9 B (in), 12 A (in), 13 Y (out), 14 ~{Y} (out)
part C pins: 15 ~{Y} (out), 16 VCC2 (power) hidden to VCC2, 17 Y (out), 18 A (in), 19 B (in)

## MC10107L
designator U?
Triple 2-Input XOR/XNOR Gate; ComponentAvailability: Not for New Design; Published: 15-Apr-2002; DatasheetVersion: 1996; PackageVersion: 1996; PackageReference: 620-10; Publisher: Altium Limited; PackageDescription: DIP; 16 Leads; Row Spacing 7.62 mm; Pitch 2.54 mm; ComponentLink1Description: Manufacturer Link; ComponentLink1URL: http://www.onsemi.com/; ComponentLink2Description: Datasheet; ComponentLink2URL: http://www.onsemi.com/pub/Collateral/MC10107-D.PDF
footprint 620-10 (DIP; 16 Leads; Row Spacing 7.62 mm; Pitch 2.54 mm)
pins on every part: 1 VCC1 (power) hidden to VCC1, 8 VEE (power) hidden to VEE, 16 VCC2 (power) hidden to VCC2
part A pins: 2 ~{Y} (out), 3 Y (out), 4 A (in), 5 B (in)
part B pins: 7 B (in), 9 A (in), 10 Y (out), 11 ~{Y} (out)
part C pins: 12 ~{Y} (out), 13 Y (out), 14 A (in), 15 B (in)